# EAGLE library part LT3476 (library PowerProducts)
LT-Spice library generated with : ltspice.ulp from: E:/Programme/LTC/LTspiceIV/lib/sym/PowerProducts/LT3477*.asy at 05.10.2012 11:16:52
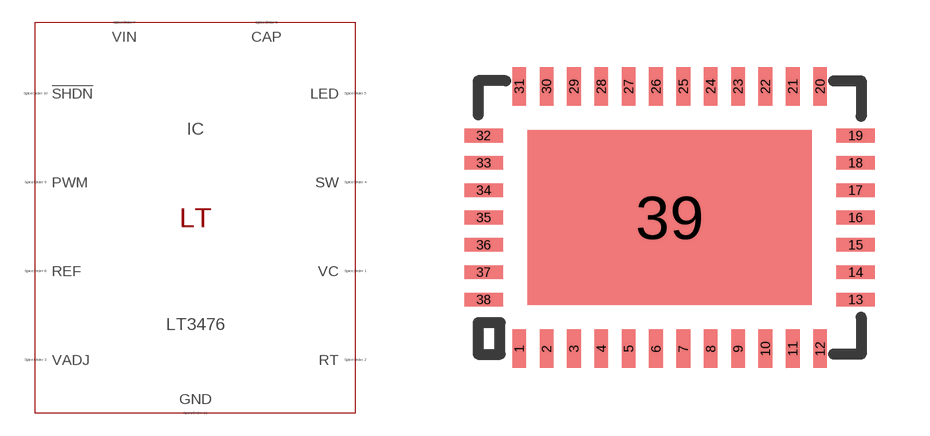
[diagram p41: symbol with the pads of QFN38(UHF); footprint QFN38(UHF)]

Designator prefix IC

## LT3476 (SPICEMODEL: LT1762.lib; SPICEPREFIX: X; VALUE2: LT1762)  [QFN38(UHF)]
1  VC  pas
2  LED  pas
3  CAP  pas
4  CAP  pas
5  LED  pas
6  RT  pas
7  REF  pas
8  LED  pas
9  CAP  pas
10  CAP  pas
11  LED  pas
12  VC  pas
13  VC  pas
14  VADJ  pas
15  VADJ  pas
16  PWM  pas
17  PWM  pas
18  !SHDN  pas
22  SW  pas
23  SW  pas
24  SW  pas
25  SW  pas
26  SW  pas
27  SW  pas
28  SW  pas
29  SW  pas
33  VIN  pas
34  PWM  pas
35  PWM  pas
36  VADJ  pas
37  VADJ  pas
38  VC  pas
39  GND  pas

## Footprint QFN38(UHF) (pad centres in mm)
Package generated from: QFN38(UHF).asc (!PADS-POWERPCB-V5.0-BASIC! DESIGN DATABASE ASCII FILE 1.0) with :import-pads-powerpcb-v5.ulp Version 1.0.1 at 04.10.2012 14:11:28
smd 0.375 x 1.05: 1 -4.125,-3.6; 2 -3.375,-3.6; 3 -2.625,-3.6; 4 -1.875,-3.6; 5 -1.125,-3.6; 6 -0.375,-3.6; 7 0.375,-3.6; 8 1.125,-3.6; 9 1.875,-3.6; 10 2.625,-3.6; 11 3.375,-3.6; 12 4.125,-3.6; 20 4.125,3.6; 21 3.375,3.6; 22 2.625,3.6; 23 1.875,3.6; 24 1.125,3.6; 25 0.375,3.6; 26 -0.375,3.6; 27 -1.125,3.6; 28 -1.875,3.6; 29 -2.625,3.6; 30 -3.375,3.6; 31 -4.125,3.6
smd 1.05 x 0.375: 13 5.1,-2.25; 14 5.1,-1.5; 15 5.1,-0.75; 16 5.1,0; 17 5.1,0.75; 18 5.1,1.5; 19 5.1,2.25; 32 -5.1,2.25; 33 -5.1,1.5; 34 -5.1,0.75; 35 -5.1,0; 36 -5.1,-0.75; 37 -5.1,-1.5; 38 -5.1,-2.25
smd 7.8 x 4.8: 39 0,0